# Altium schematic symbol library ICs_And_Semiconductors.SchLib: 2 symbols
Pins are listed as number, name and electrical type; pins without a type are passive.

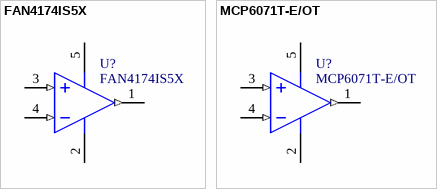
[diagram p0: symbols FAN4174IS5X to MCP6071T-E/OT]

## FAN4174IS5X
designator U?
1 MHz, Low-Power Operational Amplifier, 5-Pin SOT-23, Industrial Temperature, Tape and Reel; Manufacturer: Microchip; Supplier 1: Farnell; Supplier Part Number 1: 2985479; Mounting Technology: Surface Mount; Package: SOT23; Manufacturer Part Number: FAN4174IS5X; Value: FAN4174IS5X; Part Type: Ampliefier; Mounting: SMD; ComponentLink1Description: Datasheet; ComponentLink1URL: http://www.farnell.com/datasheets/2299965.pdf
footprint SOT95P280X145-5N
pins: 1 VOUT (out), 2 VSS (power), 3 VIN+ (in), 4 VIN- (in), 5 VDD (power)

## MCP6071T-E/OT
designator U?
1 MHz, Low-Power Operational Amplifier, 5-Pin SOT-23, Industrial Temperature, Tape and Reel; Manufacturer: Microchip; Supplier 1: Farnell; Supplier Part Number 1: 1863960; Mounting Technology: Surface Mount; Package: SOT23-5; Manufacturer Part Number: MCP6071T-E/OT; Value: MCP6071T-E/OT; Part Type: Ampliefier; Mounting: SMD; ComponentLink1Description: Datasheet; ComponentLink1URL: http://www.farnell.com/datasheets/1062688.pdf
footprint SOT95P280X145-5N
pins: 1 VOUT (out), 2 VSS (power), 3 VIN+ (in), 4 VIN- (in), 5 VDD (power)